# Altium schematic symbol library Schlib1.SchLib: 4 symbols
Pins are listed as number, name and electrical type; pins without a type are passive.

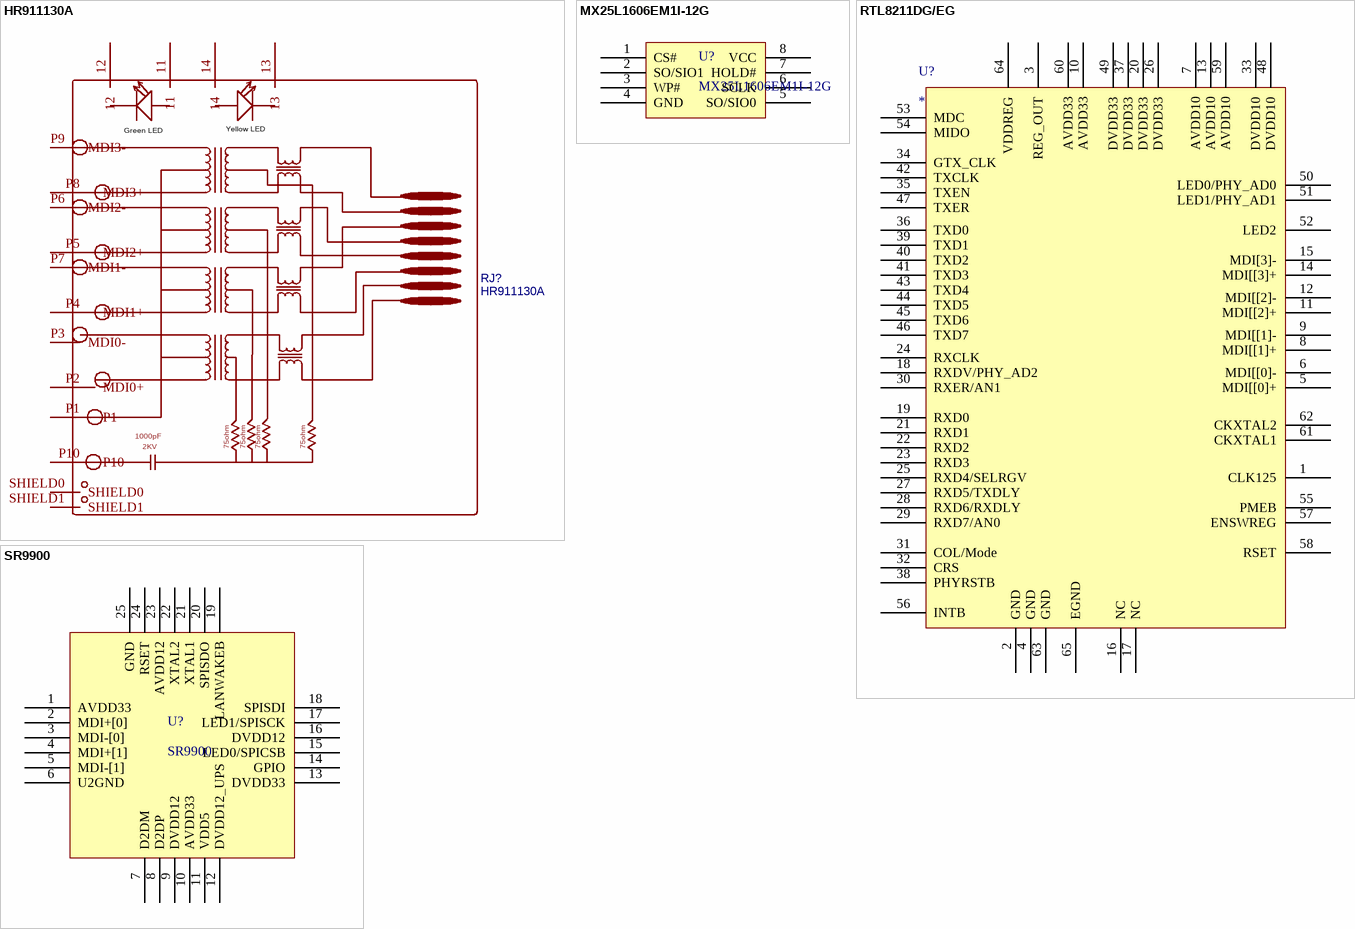
[diagram p0: symbols HR911130A to SR9900]

## HR911130A
designator RJ?
RJ_45网口; BOM_Manufacturer: HANRUN; BOM_Supplier: LCSC; BOM_Manufacturer Part: HR911130A; BOM_Supplier Part: C54408; spicePre: R; spiceSymbolName: HR911130A
footprint RJ_45 (以太网网口)
pins: 11, 12, 13, 14, P1, P2 MDI0+, P3 MDI0-, P4 MDI1+, P5 MDI2+, P6 MDI2-, P7 MDI1-, P8 MDI3+, P9 MDI3-, P10, SHIELD0, SHIELD1
text: Yellow LED; Green LED; J8; J7; J6 RX-; J5; J4; J3 RX+; J2 TX-; J1 TX+; 1000pF; 75ohm; 2KV

## MX25L1606EM1I-12G
designator U?
footprint SOP8W_N (5.3*8.3*1.8mm（长宽高）)
pins: 1 CS#, 2 SO/SIO1, 3 WP#, 4 GND, 5 SO/SIO0, 6 SCLK, 7 HOLD#, 8 VCC

## RTL8211DG/EG
designator U?
RTL8211DG/EG
footprint QFN65-050-0909
pins: 1 CLK125, 2 GND, 3 REG_OUT, 4 GND, 5 MDI[[0]+, 6 MDI[[0]-, 7 AVDD10, 8 MDI[[1]+, 9 MDI[[1]-, 10 AVDD33, 11 MDI[[2]+, 12 MDI[[2]-, 13 AVDD10, 14 MDI[[3]+, 15 MDI[3]-, 16 NC, 17 NC, 18 RXDV/PHY_AD2, 19 RXD0, 20 DVDD33, 21 RXD1, 22 RXD2, 23 RXD3, 24 RXCLK, 25 RXD4/SELRGV, 26 DVDD33, 27 RXD5/TXDLY, 28 RXD6/RXDLY, 29 RXD7/AN0, 30 RXER/AN1, 31 COL/Mode, 32 CRS, 33 DVDD10, 34 GTX_CLK, 35 TXEN, 36 TXD0, 37 DVDD33, 38 PHYRSTB, 39 TXD1, 40 TXD2, 41 TXD3, 42 TXCLK, 43 TXD4, 44 TXD5, 45 TXD6, 46 TXD7, 47 TXER, 48 DVDD10, 49 DVDD33, 50 LED0/PHY_AD0, 51 LED1/PHY_AD1, 52 LED2, 53 MDC, 54 MIDO, 55 PMEB, 56 INTB, 57 ENSWREG, 58 RSET, 59 AVDD10, 60 AVDD33, 61 CKXTAL1, 62 CKXTAL2, 63 GND, 64 VDDREG, 65 EGND

## SR9900
designator U?
footprint QFN24 4x4_M (24脚，长x宽x高：4x4x1mm，脚距：0.5mm)
pins: 1 AVDD33, 2 MDI+[0], 3 MDI-[0], 4 MDI+[1], 5 MDI-[1], 6 U2GND, 7 D2DM, 8 D2DP, 9 DVDD12, 10 AVDD33, 11 VDD5, 12 DVDD12_UPS, 13 DVDD33, 14 GPIO, 15 LED0/SPICSB, 16 DVDD12, 17 LED1/SPISCK, 18 SPISDI, 19 LANWAKEB, 20 SPISDO, 21 XTAL1, 22 XTAL2, 23 AVDD12, 24 RSET, 25 GND